# EAGLE library part PINHD-1X40 (library pinhead)
PIN HEADER
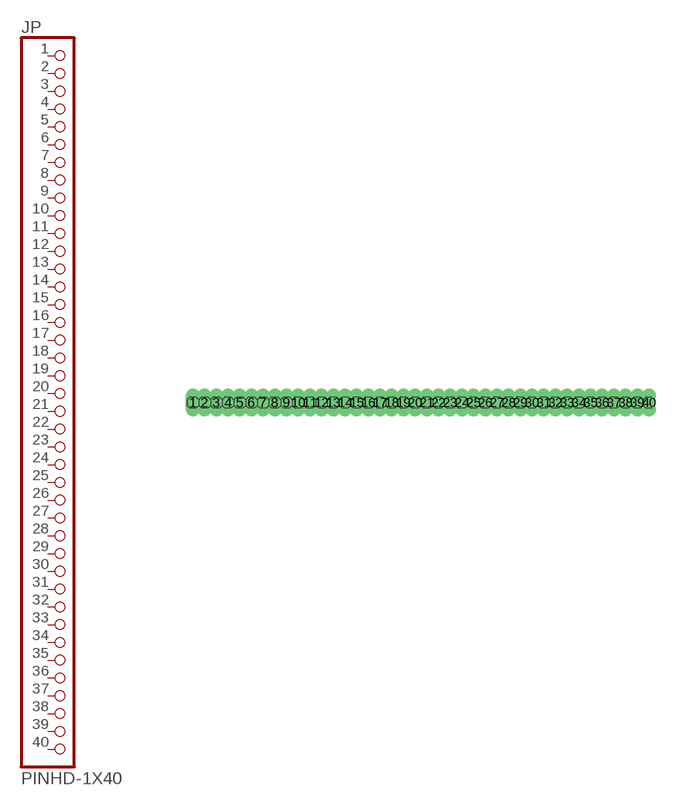
[diagram p19: symbol with the pads of 1X40; footprint 1X40]

Designator prefix JP

## PINHD-1X40  [1X40]
1  1  pas
2  2  pas
3  3  pas
4  4  pas
5  5  pas
6  6  pas
7  7  pas
8  8  pas
9  9  pas
10  10  pas
11  11  pas
12  12  pas
13  13  pas
14  14  pas
15  15  pas
16  16  pas
17  17  pas
18  18  pas
19  19  pas
20  20  pas
21  21  pas
22  22  pas
23  23  pas
24  24  pas
25  25  pas
26  26  pas
27  27  pas
28  28  pas
29  29  pas
30  30  pas
31  31  pas
32  32  pas
33  33  pas
34  34  pas
35  35  pas
36  36  pas
37  37  pas
38  38  pas
39  39  pas
40  40  pas

## Footprint 1X40 (pad centres in mm)
PIN HEADER
drill 0.254 long: 1 -12.383,0; 2 -11.748,0; 3 -11.113,0; 4 -10.477,0; 5 -9.842,0; 6 -9.207,0; 7 -8.572,0; 8 -7.938,0; 9 -7.303,0; 10 -6.668,0; 11 -6.032,0; 12 -5.397,0; 13 -4.763,0; 14 -4.128,0; 15 -3.493,0; 16 -2.857,0; 17 -2.223,0; 18 -1.587,0; 19 -0.953,0; 20 -0.318,0; 21 0.318,0; 22 0.953,0; 23 1.587,0; 24 2.223,0; 25 2.857,0; 26 3.493,0; 27 4.128,0; 28 4.763,0; 29 5.397,0; 30 6.032,0; 31 6.668,0; 32 7.303,0; 33 7.938,0; 34 8.572,0; 35 9.207,0; 36 9.842,0; 37 10.477,0; 38 11.113,0; 39 11.748,0; 40 12.383,0